# EAGLE library part LA7840 (library LA7840)
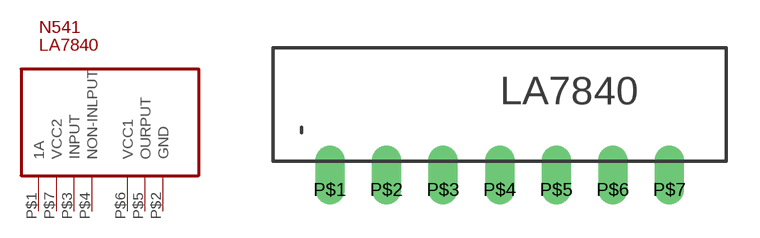
[diagram p0: symbol with the pads of LA7840; footprint LA7840]

Designator prefix -

## LA7840L  [LA7840]
P$1  1A  in
P$2  GND  in
P$3  INPUT  in
P$4  NON-INLPUT  in
P$5  OURPUT  in
P$6  VCC1  in
P$7  VCC2  in

## Footprint LA7840 (pad centres in mm)
drill 0.813 offset: P$1 -3.81,-3.81; P$2 -1.27,-3.81; P$3 1.27,-3.81; P$4 3.81,-3.81; P$5 6.35,-3.81; P$6 8.89,-3.81; P$7 11.43,-3.81